# EAGLE library part 0826-1X4T-43-F (library ds_con)
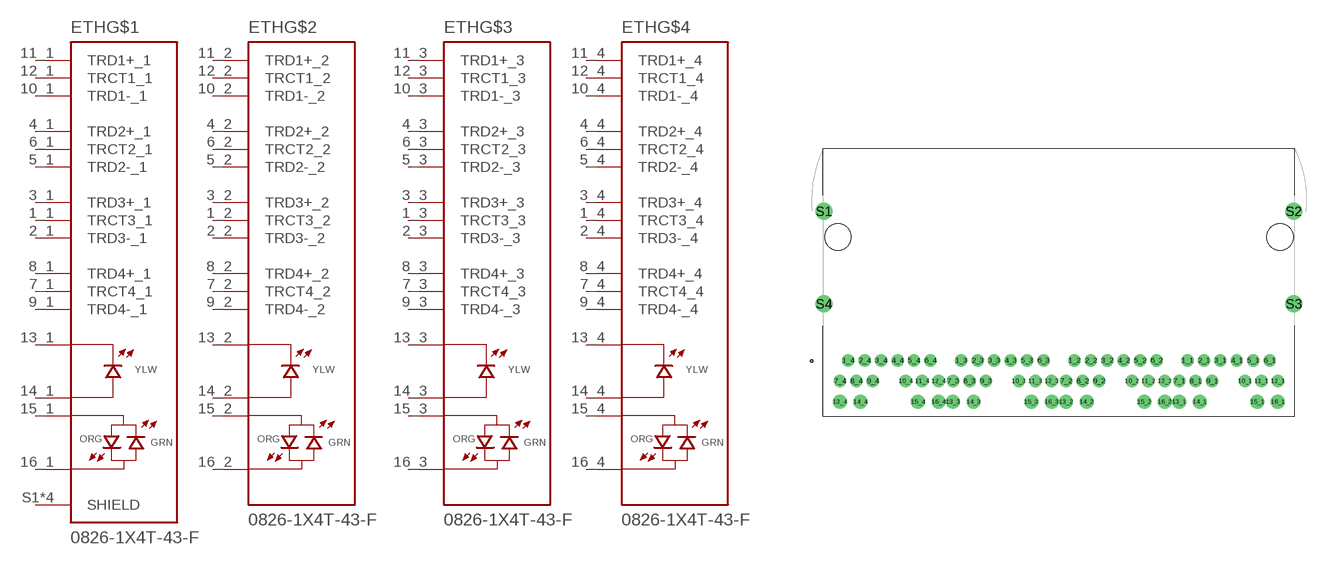
[diagram p35: symbol with the pads of BEL_0826-1X4T-43-F; footprint BEL_0826-1X4T-43-F]

Designator prefix ETH; gates G$1=0826-1X4T-43-F_PORT1 G$2=0826-1X4T-43-F_PORT2 G$3=0826-1X4T-43-F_PORT3 G$4=0826-1X4T-43-F_PORT4

## 0826-1X4T-43-F (MANUFACTURER: Bel Fuse; MAXIMUM_PACKAGE_HEIGHT: 15.49mm; PARTREV: D; STANDARD: Manufacturer Recommendations)  [BEL_0826-1X4T-43-F]
1_1  G$1:TRCT3_1  pas
1_2  G$2:TRCT3_2  pas
1_3  G$3:TRCT3_3  pas
1_4  G$4:TRCT3_4  pas
2_1  G$1:TRD3-_1  pas
2_2  G$2:TRD3-_2  pas
2_3  G$3:TRD3-_3  pas
2_4  G$4:TRD3-_4  pas
3_1  G$1:TRD3+_1  pas
3_2  G$2:TRD3+_2  pas
3_3  G$3:TRD3+_3  pas
3_4  G$4:TRD3+_4  pas
4_1  G$1:TRD2+_1  pas
4_2  G$2:TRD2+_2  pas
4_3  G$3:TRD2+_3  pas
4_4  G$4:TRD2+_4  pas
5_1  G$1:TRD2-_1  pas
5_2  G$2:TRD2-_2  pas
5_3  G$3:TRD2-_3  pas
5_4  G$4:TRD2-_4  pas
6_1  G$1:TRCT2_1  pas
6_2  G$2:TRCT2_2  pas
6_3  G$3:TRCT2_3  pas
6_4  G$4:TRCT2_4  pas
7_1  G$1:TRCT4_1  pas
7_2  G$2:TRCT4_2  pas
7_3  G$3:TRCT4_3  pas
7_4  G$4:TRCT4_4  pas
8_1  G$1:TRD4+_1  pas
8_2  G$2:TRD4+_2  pas
8_3  G$3:TRD4+_3  pas
8_4  G$4:TRD4+_4  pas
9_1  G$1:TRD4-_1  pas
9_2  G$2:TRD4-_2  pas
9_3  G$3:TRD4-_3  pas
9_4  G$4:TRD4-_4  pas
10_1  G$1:TRD1-_1  pas
10_2  G$2:TRD1-_2  pas
10_3  G$3:TRD1-_3  pas
10_4  G$4:TRD1-_4  pas
11_1  G$1:TRD1+_1  pas
11_2  G$2:TRD1+_2  pas
11_3  G$3:TRD1+_3  pas
11_4  G$4:TRD1+_4  pas
12_1  G$1:TRCT1_1  pas
12_2  G$2:TRCT1_2  pas
12_3  G$3:TRCT1_3  pas
12_4  G$4:TRCT1_4  pas
13_1  G$1:13_1  pas
13_2  G$2:13_2  pas
13_3  G$3:13_3  pas
13_4  G$4:13_4  pas
14_1  G$1:14_1  pas
14_2  G$2:14_2  pas
14_3  G$3:14_3  pas
14_4  G$4:14_4  pas
15_1  G$1:15_1  pas
15_2  G$2:15_2  pas
15_3  G$3:15_3  pas
15_4  G$4:15_4  pas
16_1  G$1:16_1  pas
16_2  G$2:16_2  pas
16_3  G$3:16_3  pas
16_4  G$4:16_4  pas
S1  G$1:SHIELD  pas
S2  G$1:SHIELD  pas
S3  G$1:SHIELD  pas
S4  G$1:SHIELD  pas

## Footprint BEL_0826-1X4T-43-F (pad centres in mm)
drill 1.016: 1_1 15.875,-15.24; 1_2 1.905,-15.24; 1_3 -12.065,-15.24; 1_4 -26.035,-15.24; 2_1 17.907,-15.24; 2_2 3.937,-15.24; 2_3 -10.033,-15.24; 2_4 -24.003,-15.24; 3_1 19.939,-15.24; 3_2 5.969,-15.24; 3_3 -8.001,-15.24; 3_4 -21.971,-15.24; 4_1 21.971,-15.24; 4_2 8.001,-15.24; 4_3 -5.969,-15.24; 4_4 -19.939,-15.24; 5_1 24.003,-15.24; 5_2 10.033,-15.24; 5_3 -3.937,-15.24; 5_4 -17.907,-15.24; 6_1 26.035,-15.24; 6_2 12.065,-15.24; 6_3 -1.905,-15.24; 6_4 -15.875,-15.24; 7_1 14.859,-17.78; 7_2 0.889,-17.78; 7_3 -13.081,-17.78; 7_4 -27.051,-17.78; 8_1 16.891,-17.78; 8_2 2.921,-17.78; 8_3 -11.049,-17.78; 8_4 -25.019,-17.78; 9_1 18.923,-17.78; 9_2 4.953,-17.78; 9_3 -9.017,-17.78; 9_4 -22.987,-17.78; 10_1 22.987,-17.78; 10_2 9.017,-17.78; 10_3 -4.953,-17.78; 10_4 -18.923,-17.78; 11_1 25.019,-17.78; 11_2 11.049,-17.78; 11_3 -2.921,-17.78; 11_4 -16.891,-17.78; 12_1 27.051,-17.78; 12_2 13.081,-17.78; 12_3 -0.889,-17.78; 12_4 -14.859,-17.78
drill 1.143 pad 1.6: 13_1 14.859,-20.32; 13_2 0.889,-20.32; 13_3 -13.081,-20.32; 16_2 13.081,-20.32; 16_3 -0.889,-20.32; 16_4 -14.859,-20.32
drill 1.143: 13_4 -27.051,-20.32; 14_1 17.399,-20.32; 14_2 3.429,-20.32; 14_3 -10.541,-20.32; 14_4 -24.511,-20.32; 15_1 24.511,-20.32; 15_2 10.541,-20.32; 15_3 -3.429,-20.32; 15_4 -17.399,-20.32; 16_1 27.051,-20.32
drill 1.397: S1 -29.02,3.175; S2 29.02,3.175; S3 29.02,-8.255; S4 -29.02,-8.255
hole 3.251 at -27.305,0
hole 3.251 at 27.305,0